# EAGLE library part 621X24242921 (library Eagle_BOARD-TO-BOARD_CONNECTORS (rev18b))
WR-PHD 2.00mm Dual SMT Socket Header, 24 Pins=>Code : Con_BTB_SHD_2.00_2_621x24242921(Packaging:x = 0: Tube x = 3: Tape & Reel with Cap; 600 pcs/Reel) <http://katalog.we-online.de/media/images/v2/Family_Dual_Socket_Header_WR-PHD_6130xx242921.jpg> 6210xx242921 Details see: http://katalog.we-online.de/en/em/PHD_2_00_SMT_DUAL_SOCKET_HEADER_6210XX242921 6213xx242921 Details see: http://katalog.we-online.de/en/em/PHD_2_00_SMT_DUAL_SOCKET_HEADER_REEL_6213XX242921 Created 2014-06-03, Karrer Zheng 2014 (C) Würth Elektronik
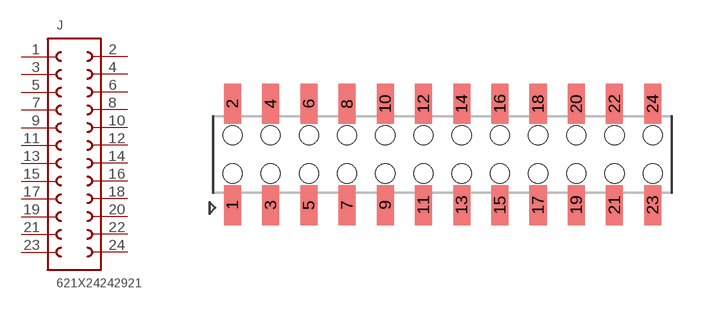
[diagram p261: symbol with the pads of 621X24242921; footprint 621X24242921]

Designator prefix J

## 621X24242921  [621X24242921]
1  1  pas
2  24  pas
3  2  pas
4  23  pas
5  3  pas
6  22  pas
7  4  pas
8  21  pas
9  5  pas
10  20  pas
11  6  pas
12  19  pas
13  7  pas
14  18  pas
15  8  pas
16  17  pas
17  9  pas
18  16  pas
19  10  pas
20  15  pas
21  11  pas
22  14  pas
23  12  pas
24  13  pas

## Footprint 621X24242921 (pad centres in mm)
WR-PHD 2.00mm Dual SMT Socket Header, 24 Pins
smd 0.89 x 2.1: 1 -11,-2.65; 2 -11,2.65; 3 -9,-2.65; 4 -9,2.65; 5 -7,-2.65; 6 -7,2.65; 7 -5,-2.65; 8 -5,2.65; 9 -3,-2.65; 10 -3,2.65; 11 -1,-2.65; 12 -1,2.65; 13 1,-2.65; 14 1,2.65; 15 3,-2.65; 16 3,2.65; 17 5,-2.65; 18 5,2.65; 19 7,-2.65; 20 7,2.65; 21 9,-2.65; 22 9,2.65; 23 11,-2.65; 24 11,2.65
hole 1 at -11,1
hole 1 at -9,1
hole 1 at -9,-1
hole 1 at -11,-1
hole 1 at -7,1
hole 1 at -7,-1
hole 1 at -5,-1
hole 1 at -5,1
hole 1 at -3,1
hole 1 at -3,-1
hole 1 at -1,-1
hole 1 at 1,-1
hole 1 at 1,1
hole 1 at -1,1
hole 1 at 3,1
hole 1 at 5,1
hole 1 at 5,-1
hole 1 at 3,-1
hole 1 at 7,1
hole 1 at 7,-1
hole 1 at 9,1
hole 1 at 11,1
hole 1 at 11,-1
hole 1 at 9,-1